# EAGLE library part S9PIN (library jst_eh)
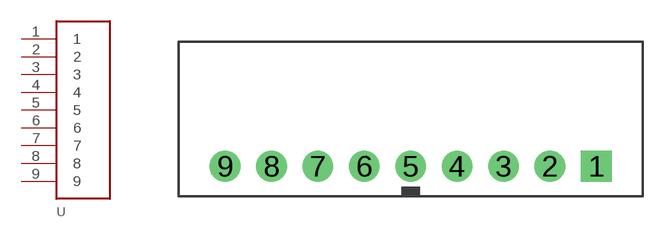
[diagram p13: symbol with the pads of S9B-EH; footprint S9B-EH]

Designator prefix -

## S9PIN  [S9B-EH]
1  1
2  2
3  3
4  4
5  5
6  6
7  7
8  8
9  9

## Footprint S9B-EH (pad centres in mm)
drill 1.1 square: 1 10,0
drill 1.1: 2 7.5,0; 3 5,0; 4 2.5,0; 5 0,0; 6 -2.5,0; 7 -5,0; 8 -7.5,0; 9 -10,0